# Altium schematic symbol library ESDA25W.SchLib: 1 symbol
Pins are listed as number, name and electrical type; pins without a type are passive.

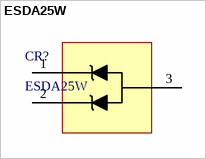
[diagram p0: symbol ESDA25W]

## ESDA25W
designator CR?
Clamp Ipp Tvs Diode Surface Mount SOT-323-3L; Manufacturer_Name: STMicroelectronics; Manufacturer_Part_Number: ESDA25W; Type: Type; RefDes: RefDes; ComponentLink1Description: Datasheet; ComponentLink1URL: https://www.st.com/resource/en/datasheet/esdaxxxwx.pdf
pins: 1, 2, 3